# Altium schematic symbol library ARCOM_ADC.SchLib: 17 symbols
Pins are listed as number, name and electrical type; pins without a type are passive.

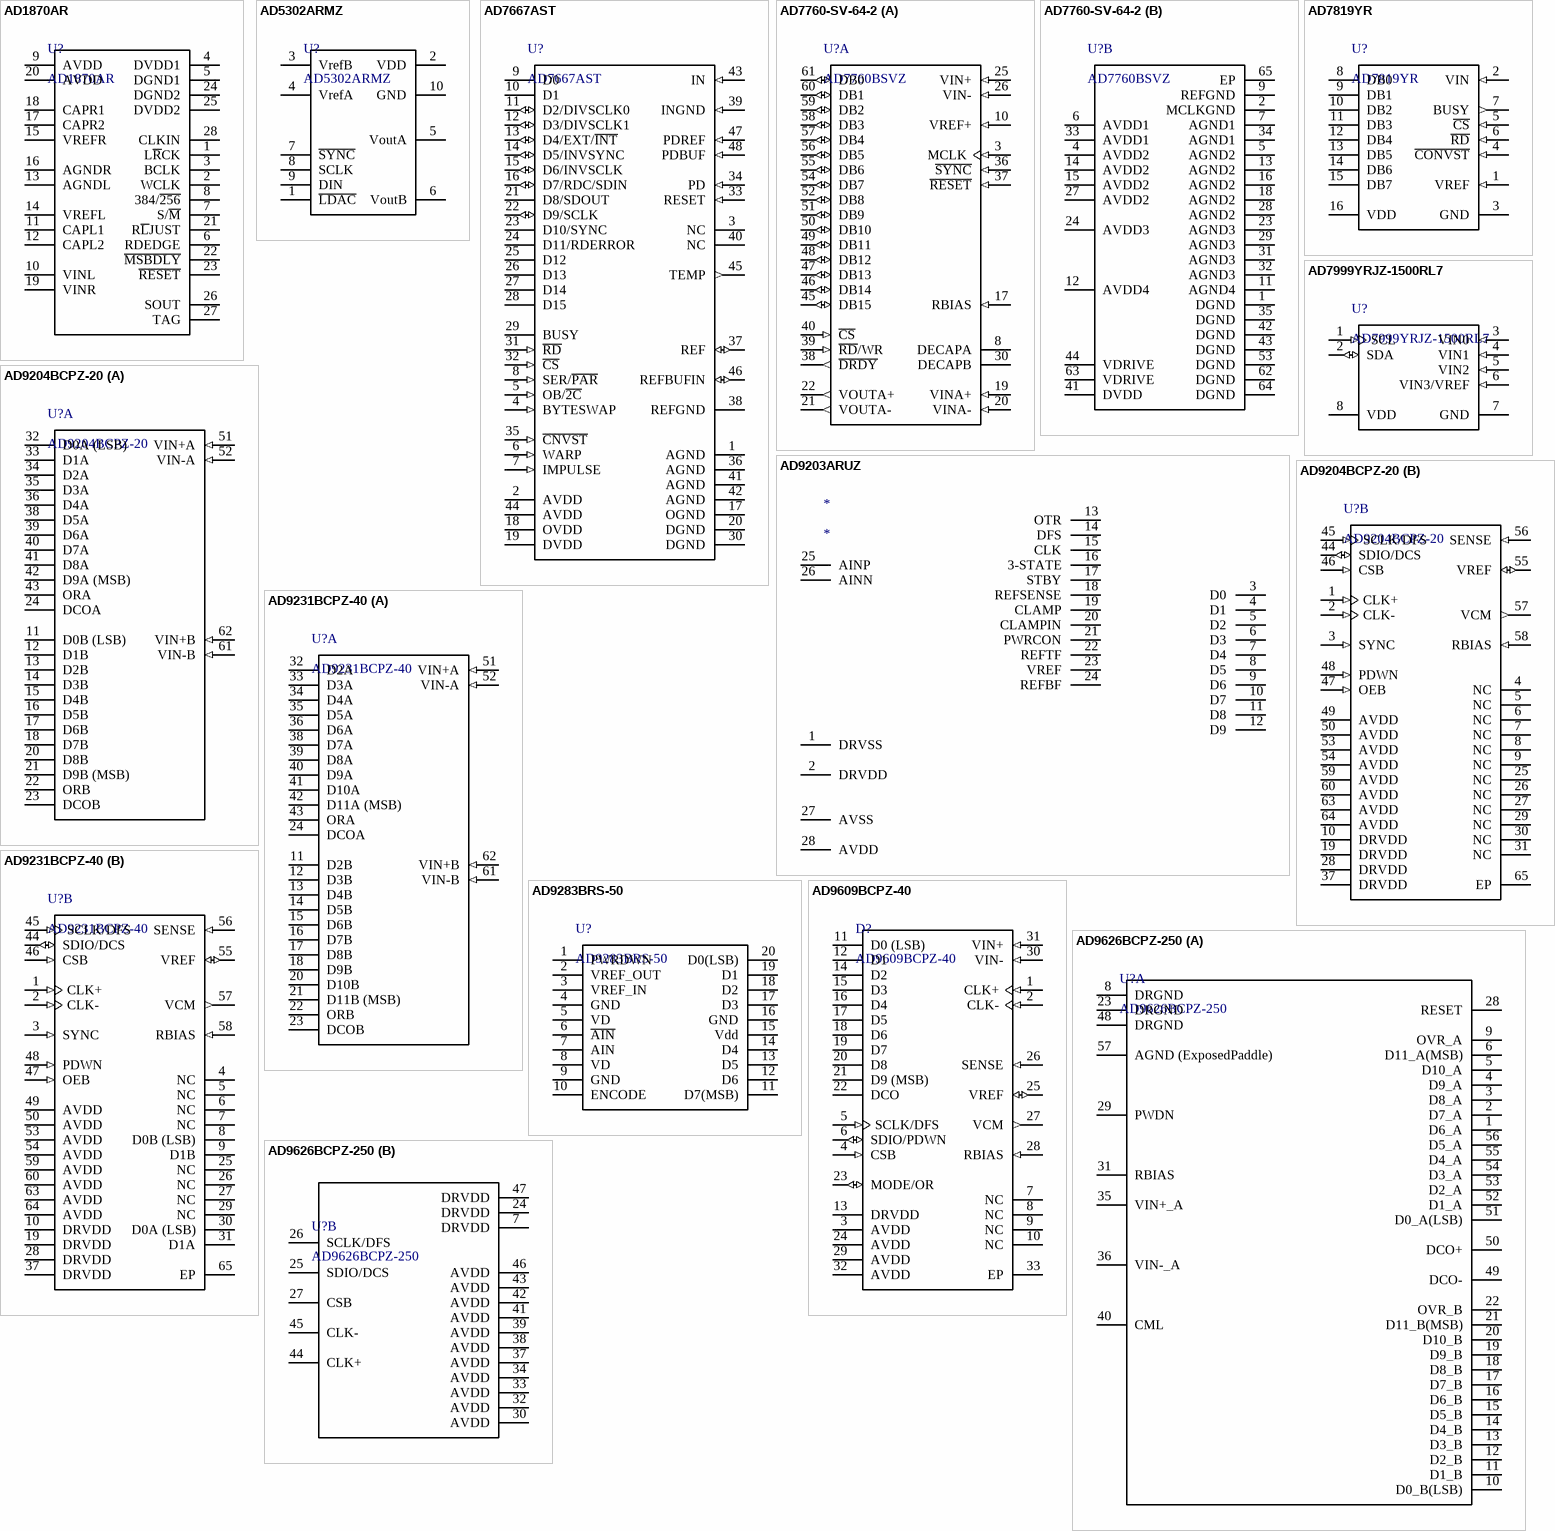
[diagram p0: symbols AD1870AR to AD9626BCPZ-250]

## AD1870AR
designator U?
single supply 16-bit sigma delta stereo ADC; Manufacturer: Analog Devices; ComponentLink2URL: http://www.analog.com/media/en/technical-documentation/data-sheets/AD1870.pdf; ComponentLink1Description: Manufacturer; ComponentLink1URL: http://www.analog.com; ComponentLink2Description: Datasheet; Manufacturer P/N: AD1870AR; Part: AD1870AR; Family: Chip
footprint SOIC-SO28_L (SOIC, 28-Leads, Body 17.9x7.5mm, Pitch 1.27mm, IPC High Density)
footprint SOIC-SO28_M (SOIC, 28-Leads, Body 17.9x7.5mm, Pitch 1.27mm, IPC Low Density)
footprint SOIC-SO28_N (SOIC, 28-Leads, Body 17.9x7.5mm, Pitch 1.27mm, IPC Medium Density)
pins: 1 L~{R}CK, 2 WCLK, 3 BCLK, 4 DVDD1, 5 DGND1, 6 RDEDGE, 7 S/~{M}, 8 384/~{256}, 9 AVDD, 10 VINL, 11 CAPL1, 12 CAPL2, 13 AGNDL, 14 VREFL, 15 VREFR, 16 AGNDR, 17 CAPR2, 18 CAPR1, 19 VINR, 20 AVDD, 21 R~{L}JUST, 22 ~{MSBDLY}, 23 ~{RESET}, 24 DGND2, 25 DVDD2, 26 SOUT, 27 TAG, 28 CLKIN

## AD5302ARMZ
designator U?
2.5V to 5.5V, 230uA, Dual Rail-to-Rail, Voltage Output 8-Bit DACs; Manufacturer: Analog Devices; ComponentLink1Description: Manufacturer; ComponentLink1URL: *; ComponentLink2Description: Datasheet; ComponentLink2URL: *; Family: Chip; Manufacturer P/N: AD5302ARMZ; Part: AD5302ARMZ
footprint SOP50P490X110-10N
pins: 1 ~{LDAC}, 2 VDD, 3 VrefB, 4 VrefA, 5 VoutA, 6 VoutB, 7 ~{SYNC}, 8 SCLK, 9 DIN, 10 GND

## AD7667AST
designator U?
16-Bit 1MSPS PulSAR Unipolar ADC with Reference; Manufacturer: Analog Devices; ComponentLink1Description: Manufacturer; ComponentLink1URL: http://www.analog.com/; ComponentLink2Description: Datasheet; ComponentLink2URL: http://www.analog.com/media/en/technical-documentation/data-sheets/AD7667.pdf; Manufacturer P/N: AD7667AST; Part: AD7667AST; Family: Chip
footprint ST-48_L (Thin QFP, 48-Leads, Body 7x7mm, Pitch 0.5mm, IPC High Density)
footprint ST-48_M (Thin QFP, 48-Leads, Body 7x7mm, Pitch 0.5mm, IPC Low Density)
footprint ST-48_N (Thin QFP, 48-Leads, Body 7x7mm, Pitch 0.5mm, IPC Medium Density)
pins: 1 AGND (power) "Analog Power Ground Pin.", 2 AVDD (power) "Input Analog Power Pin. Nominally 5 V.", 3 NC "No Connect.", 4 BYTESWAP (in) "Parallel Mode Selection (8-/16-bit). When LOW, the LSB is output on D[7:0] and the MSB is output on D[15:8]. When HIGH, the LSB is output on D[15:8] and the MSB is output on D[7:0].", 5 OB/~{2C} (in) "Straight Binary/Binary Twos Complement. When OB/2\C\ is HIGH, the digital output is straight binary; when LOW, the MSB is inverted, resulting in a twos complement output from its internal shift register.", 6 WARP (in) "Mode Selection. When this pin is HIGH and the IMPULSE pin is LOW, this input selects the fastest mode, the maximum throughput is achievable, and a minimum conversion rate must be applied in order to guarantee full specified (See Datasheet)", 7 IMPULSE (in) "Mode Selection. When IMPULSE is HIGH and WARP is LOW, this input selects a reduced power mode. In this mode, the power dissipation is approximately proportional to the sampling rate.", 8 SER/~{PAR} (in) "Serial/Parallel Selection Input. When LOW, the parallel port is selected; when HIGH, the serial interface mode is selected and some bits of the DATA bus are used as a serial port.", 9 D0 (hiz) "Bit 0  of the Parallel Port Data Output Bus. When SER/P\A\R\ is HIGH, these outputs are in high impedance.", 10 D1 (hiz) "Bit 1 of the Parallel Port Data Output Bus. When SER/P\A\R\ is HIGH, these outputs are in high impedance.", 11 D2/DIVSCLK0 (io) "When SER/P\A\R\ is LOW,this output is used as Bit 2 of the parallel port data output bus. When SER/P\A\R\ is HIGH, EXT/I\N\T\ is LOW, and RDC/SDIN is LOW (serial master read after convert), these inputs, part of the serial (See Datasheet)", 12 D3/DIVSCLK1 (io) "When SER/P\A\R\ is LOW,this output is used as Bit 3 of the parallel port data output bus. When SER/P\A\R\ is HIGH, EXT/I\N\T\ is LOW, and RDC/SDIN is LOW (serial master read after convert), these inputs, part of the serial (See Datasheet)", 13 D4/EXT/~{INT} (io) "When SER/P\A\R\ is LOW,this output is used as Bit 4 of the parallel port data output bus. When SER/P\A\R\is HIGH, this input, part of the serial port, is used as a digital select input for choosing the internal data clock or (See Datasheet)", 14 D5/INVSYNC (io) "When SER/P\A\R\ is LOW,this output is used as Bit 5 of the parallel port data output bus. When SER/P\A\R\ is HIGH, this input, part of the serial port, is used to select the active state of the SYNC signal. It is active in (See Datasheet)", 15 D6/INVSCLK (io) "When SER/P\A\R\ is LOW,this output is used as Bit 6 of the parallel port data output bus. When SER/P\A\R\ is HIGH, this input, part of the serial port, is used to invert the SCLK signal. It is active in both master and slave (See Datasheet)", 16 D7/RDC/SDIN (io) "When SER/P\A\R\ is LOW,this output is used as Bit 7 of the parallel port data output bus. When SER/P\A\R\ is HIGH, this input, part of the serial port, is used as either an external data input or a read mode selection input (See Datasheet)", 17 OGND (power) "Input/Output Interface Digital Power Ground.", 18 OVDD (power) "Input/Output Interface Digital Power. Nominally at the same supply as the host interface (5 V or 3 V).", 19 DVDD (power) "Digital Power. Nominally at 5 V.", 20 DGND (power) "Digital Power Ground.", 21 D8/SDOUT (hiz) "When SER/P\A\R\ is LOW,this output is used as Bit 8 of the parallel port data output bus. When SER/P\A\R\ is HIGH, this output, part of the serial port, is used as a serial data output synchronized to SCLK. Conversion (See Datasheet)", 22 D9/SCLK (io) "When SER/P\A\R\ is LOW,this output is used as Bit 9 of the parallel port data or SCLK output bus.When SER/P\A\R\ is HIGH,this pin, part of the serial port, is used as a serial data clock input or output,depending upon the (See Datasheet)", 23 D10/SYNC (hiz) "When SER/P\A\R\ is LOW,this output is used as Bit 10 of the parallel port data output bus.When SER/P\A\R\ is HIGH, this output, part of the serial port, is used as a digital output frame synchronization for use with the (See Datasheet)", 24 D11/RDERROR (hiz) "When SER/P\A\R\ is LOW,this output is used as Bit 11 of the parallel port data output bus. When SER/P\A\R\and EXT/I\N\T\ are HIGH,this output, part of the serial port, is used as an incomplete read error flag. In slave mode, (See Datasheet)", 25 D12 (hiz) "Bit 12 of the Parallel Port Data Output Bus. These pins are always outputs regardless of the state of SER/P\A\R\.", 26 D13 (hiz) "Bit 13 of the Parallel Port Data Output Bus. These pins are always outputs regardless of the state of SER/P\A\R\.", 27 D14 (hiz) "Bit 14 of the Parallel Port Data Output Bus. These pins are always outputs regardless of the state of SER/P\A\R\.", 28 D15 (hiz) "Bit 15 of the Parallel Port Data Output Bus. These pins are always outputs regardless of the state of SER/P\A\R\.", 29 BUSY (hiz) "Busy Output. Transitions HIGH when a conversion is started and remains HIGH until the conversion is complete and the data is latched into the on-chip shift register. The falling edge of BUSY could be used as a data ready (See Datasheet)", 30 DGND (power) "Must Be Tied to Digital Ground.", 31 ~{RD} (in) "Read Data. When C\S\and R\D\are both LOW, the interface parallel or serial output bus is enabled.", 32 ~{CS} (in) "Chip Select. When C\S\and R\D\are both LOW, the interface parallel or serial output bus is enabled. C\S\ is also used to gate the external clock.", 33 RESET (in) "Reset Input. When set to a logic HIGH, this pin resets the AD7667 and the current conversion, if any, is aborted. If not used, this pin could be tied to DGND.", 34 PD (in) "Power-Down Input. When set to a logic HIGH, power consumption is reduced and conversions are inhibited after the current one is completed.", 35 ~{CNVST} (in) "Start Conversion. If C\N\V\S\T\ is HIGH when the acquisition phase (t8) is complete, the next falling edge on C\N\V\S\T\ puts the internal sample/hold into the hold state and initiates a conversion. The mode is most (See Datasheet)", 36 AGND (power) "Analog Power Ground Pin.", 37 REF (io) "Reference Input Voltage. On-chip reference output voltage.", 38 REFGND (power) "Reference Input Analog Ground.", 39 INGND (in) "Analog Input Ground.", 40 NC "No Connect.", 41 AGND (power) "Analog Power Ground Pin.", 42 AGND (power) "Analog Power Ground Pin.", 43 IN (in) "Primary Analog Input with a Range of 0 V to 2.5 V.", 44 AVDD (power) "Input Analog Power Pin. Nominally 5 V.", 45 TEMP (out) "Temperature Sensor Voltage Output.", 46 REFBUFIN (io) "Reference Input Voltage. The reference output and the reference buffer input.", 47 PDREF (in) "This pin allows the choice of internal or external voltage references. When LOW, the on-chip reference is turned on. When HIGH, the internal reference is switched off and an external reference must be used.", 48 PDBUF (in) "This pin allows the choice of buffering an internal or external reference with the internal buffer. When LOW, the buffer is selected. When HIGH, the buffer is switched off."

## AD7760-SV-64-2
designator U?, comment AD7760BSVZ
2.5MSPS, 24-Bit, 100dB Sigma-delta ADC with on-chip buffer; Manufacturer: Analog Devices; ComponentLink1Description: Manufacturer; ComponentLink1URL: http://www.analog.com; ComponentLink2Description: Datasheet; ComponentLink2URL: http://www.analog.com/media/en/technical-documentation/data-sheets/AD7760.pdf; Manufacturer P/N: AD7760BSVZ; Part: AD7760BSVZ; Family: Chip
footprint SV-64-2_L (Thin QFP, 64-Leads, Body 10x10mm, Pitch 0.5mm, Thermal Pad 6.0x6.0mm, IPC High Density)
footprint SV-64-2_M (Thin QFP, 64-Leads, Body 10x10mm, Pitch 0.5mm, Thermal Pad 6.0x6.0mm, IPC Low Density)
footprint SV-64-2_N (Thin QFP, 64-Leads, Body 10x10mm, Pitch 0.5mm, Thermal Pad 6.0x6.0mm, IPC Medium Density)
part A pins: 3 MCLK (in) "Master Clock Input. A low jitter, buffered digital clock must be applied to this pin. The output data rate depends on the frequency of this clock. See the Clocking the AD7760 section for more details.", 8 DECAPA "Decoupling Pin. A 100 nF capacitor must be inserted between this pin and AGND.", 10 VREF+ (in) "Reference Input. The input range of this pin is determined by the reference buffer supply voltage (AVDD4). See the Reference Voltage Filtering section for more details.", 17 RBIAS (in) "Bias Current Setting Pin. A resistor must be inserted between this pin and AGND. For more details, see the Bias Resistor Selection section.", 19 VINA+ (in) "Positive Input to Differential Amplifier.", 20 VINA- (in) "Negative Input to Differential Amplifier.", 21 VOUTA- (out) "Negative Output from Differential Amplifier.", 22 VOUTA+ (out) "Positive Output from Differential Amplifier.", 25 VIN+ (in) "Positive Input to the Modulator.", 26 VIN- (in) "Negative Input to the Modulator.", 30 DECAPB "Decoupling Pin. A 33 pF capacitor must be inserted between this pin and AGND3.", 36 ~{SYNC} (in) "Synchronization Input. A falling edge on this pin resets the internal filter. This can be used to synchronize multiple devices in a system. See the Synchronization section for more details.", 37 ~{RESET} (in) "A falling edge on this pin resets all internal digital circuitry and powers down the part. Holding this pin low keeps the AD7760 in a reset state.", 38 ~{DRDY} (out) "Data Ready Output. Each time new conversion data is available, an active low pulse, ?ICLK period wide, is produced on this pin. See the Modulator Data Output Mode and AD7760 Interface sections for more details.", 39 ~{RD}/WR (in) "Read/Write Input. This pin, in conjunction with the chip select pin, is used to read and write data to and from the AD7760. If this pi\n is low when C\S\ is low, a read takes place. If this pin is high when C\S\ is low, a (See Datasheet)", 40 ~{CS} (in) "Chip Select Input. Used in conjunction with the R\D\/WR pin to read and write data from and to the AD7760. See the Modulator Data Output Mode and AD7760 Interface sections for more details.", 45 DB15 (io) "16-Bit Bidirectional Data Bus. These are three-state pins that are controlled by the C\S\ pin and the R\D\/WR pin. The operating voltage for these pins is determined by the VDRIVE voltage. See the Modulator Data Output Mode (See Datasheet)", 46 DB14 (io) "16-Bit Bidirectional Data Bus. These are three-state pins that are controlled by the C\S\ pin and the R\D\/WR pin. The operating voltage for these pins is determined by the VDRIVE voltage. See the Modulator Data Output Mode (See Datasheet)", 47 DB13 (io) "16-Bit Bidirectional Data Bus. These are three-state pins that are controlled by the C\S\ pin and the R\D\/WR pin. The operating voltage for these pins is determined by the VDRIVE voltage. See the Modulator Data Output Mode (See Datasheet)", 48 DB12 (io) "16-Bit Bidirectional Data Bus. These are three-state pins that are controlled by the C\S\ pin and the R\D\/WR pin. The operating voltage for these pins is determined by the VDRIVE voltage. See the Modulator Data Output Mode (See Datasheet)", 49 DB11 (io) "16-Bit Bidirectional Data Bus. These are three-state pins that are controlled by the C\S\ pin and the R\D\/WR pin. The operating voltage for these pins is determined by the VDRIVE voltage. See the Modulator Data Output Mode (See Datasheet)", 50 DB10 (io) "16-Bit Bidirectional Data Bus. These are three-state pins that are controlled by the C\S\ pin and the R\D\/WR pin. The operating voltage for these pins is determined by the VDRIVE voltage. See the Modulator Data Output Mode (See Datasheet)", 51 DB9 (io) "16-Bit Bidirectional Data Bus. These are three-state pins that are controlled by the C\S\ pin and the R\D\/WR pin. The operating voltage for these pins is determined by the VDRIVE voltage. See the Modulator Data Output Mode (See Datasheet)", 52 DB8 (io) "16-Bit Bidirectional Data Bus. These are three-state pins that are controlled by the C\S\ pin and the R\D\/WR pin. The operating voltage for these pins is determined by the VDRIVE voltage. See the Modulator Data Output Mode (See Datasheet)", 54 DB7 (io) "16-Bit Bidirectional Data Bus. These are three-state pins that are controlled by the C\S\ pin and the R\D\/WR pin. The operating voltage for these pins is determined by the VDRIVE voltage. See the Modulator Data Output Mode (See Datasheet)", 55 DB6 (io) "16-Bit Bidirectional Data Bus. These are three-state pins that are controlled by the C\S\ pin and the R\D\/WR pin. The operating voltage for these pins is determined by the VDRIVE voltage. See the Modulator Data Output Mode (See Datasheet)", 56 DB5 (io) "16-Bit Bidirectional Data Bus. These are three-state pins that are controlled by the C\S\ pin and the R\D\/WR pin. The operating voltage for these pins is determined by the VDRIVE voltage. See the Modulator Data Output Mode (See Datasheet)", 57 DB4 (io) "16-Bit Bidirectional Data Bus. These are three-state pins that are controlled by the C\S\ pin and the R\D\/WR pin. The operating voltage for these pins is determined by the VDRIVE voltage. See the Modulator Data Output Mode (See Datasheet)", 58 DB3 (io) "16-Bit Bidirectional Data Bus. These are three-state pins that are controlled by the C\S\ pin and the R\D\/WR pin. The operating voltage for these pins is determined by the VDRIVE voltage. See the Modulator Data Output Mode (See Datasheet)", 59 DB2 (io) "16-Bit Bidirectional Data Bus. These are three-state pins that are controlled by the C\S\ pin and the R\D\/WR pin. The operating voltage for these pins is determined by the VDRIVE voltage. See the Modulator Data Output Mode (See Datasheet)", 60 DB1 (io) "16-Bit Bidirectional Data Bus. These are three-state pins that are controlled by the C\S\ pin and the R\D\/WR pin. The operating voltage for these pins is determined by the VDRIVE voltage. See the Modulator Data Output Mode (See Datasheet)", 61 DB0 (io) "16-Bit Bidirectional Data Bus. These are three-state pins that are controlled by the C\S\ pin and the R\D\/WR pin. The operating voltage for these pins is determined by the VDRIVE voltage. See the Modulator Data Output Mode (See Datasheet)"
part B pins: 1 DGND (power) "Ground Reference for Digital Circuitry.", 2 MCLKGND (power) "Master Clock Ground Sensing Pin.", 4 AVDD2 (power) "5 V Power Supply. These pins should be decoupled to AGND2 (Pin 5 and Pin 13, with 100 nF capacitors on each of Pin 4, Pin 14, and Pin 15). Pin 27 should be connected to Pin 14 via a 15 nH inductor. See the Decoupling and (See Datasheet)", 5 AGND2 (power) "Power Supply Ground for Analog Circuitry Powered by AVDD2.", 6 AVDD1 (power) "2.5 V Power Supply for Modulator. These pins should be decoupled to AGND1 (Pin 7 and Pin 34, respectively) with 100 nF and 10 uF capacitors on each pin. See the Decoupling and Layout Recommendations section for details.", 7 AGND1 (power) "Power Supply Ground for Analog Circuitry Powered by AVDD1.", 9 REFGND (power) "Reference Ground. Ground connection for the reference voltage.", 11 AGND4 (power) "Power Supply Ground for Analog Circuitry Powered by AVDD4.", 12 AVDD4 (power) "3.3 V to 5 V Power Supply for Reference Buffer. This pin should be decoupled to Pin 9 with a 10 nF capacitor in series with a 10 O resistor.", 13 AGND2 (power) "Power Supply Ground for Analog Circuitry Powered by AVDD2.", 14 AVDD2 (power) "5 V Power Supply. These pins should be decoupled to AGND2 (Pin 5 and Pin 13, with 100 nF capacitors on each of Pin 4, Pin 14, and Pin 15). Pin 27 should be connected to Pin 14 via a 15 nH inductor. See the Decoupling and (See Datasheet)", 15 AVDD2 (power) "5 V Power Supply. These pins should be decoupled to AGND2 (Pin 5 and Pin 13, with 100 nF capacitors on each of Pin 4, Pin 14, and Pin 15). Pin 27 should be connected to Pin 14 via a 15 nH inductor. See the Decoupling and (See Datasheet)", 16 AGND2 (power) "Power Supply Ground for Analog Circuitry Powered by AVDD2.", 18 AGND2 (power) "Power Supply Ground for Analog Circuitry Powered by AVDD2.", 23 AGND3 (power) "Power Supply Ground for Analog Circuitry Powered by AVDD3.", 24 AVDD3 (power) "3.3 V to 5 V Power Supply for Differential Amplifier. This pin should be decoupled to AGND3 (Pin 23) with a 100 nF capacitor. See the Decoupling and Layout Recommendations section for details.", 27 AVDD2 (power) "5 V Power Supply. These pins should be decoupled to AGND2 (Pin 5 and Pin 13, with 100 nF capacitors on each of Pin 4, Pin 14, and Pin 15). Pin 27 should be connected to Pin 14 via a 15 nH inductor. See the Decoupling and (See Datasheet)", 28 AGND2 (power) "Power Supply Ground for Analog Circuitry Powered by AVDD2.", 29 AGND3 (power) "Power Supply Ground for Analog Circuitry Powered by AVDD3.", 31 AGND3 (power) "Power Supply Ground for Analog Circuitry Powered by AVDD3.", 32 AGND3 (power) "Power Supply Ground for Analog Circuitry Powered by AVDD3.", 33 AVDD1 (power) "2.5 V Power Supply for Modulator. These pins should be decoupled to AGND1 (Pin 7 and Pin 34, respectively) with 100 nF and 10 uF capacitors on each pin. See the Decoupling and Layout Recommendations section for details.", 34 AGND1 (power) "Power Supply Ground for Analog Circuitry Powered by AVDD1.", 35 DGND (power) "Ground Reference for Digital Circuitry.", 41 DVDD (power) "2.5 V Power Supply for Digital Circuitry and FIR Filter. This pin should be decoupled to DGND with a 100 nF capacitor.", 42 DGND (power) "Ground Reference for Digital Circuitry.", 43 DGND (power) "Ground Reference for Digital Circuitry.", 44 VDRIVE (power) "Logic Power Supply Input, 1.8 V to 2.5 V. The voltage supplied at these pins determines the operating voltage of the logic interface. Both of these pins must be connected together and tied to the same supply. Each pin should (See Datasheet)", 53 DGND (power) "Ground Reference for Digital Circuitry.", 62 DGND (power) "Ground Reference for Digital Circuitry.", 63 VDRIVE (power) "Logic Power Supply Input, 1.8 V to 2.5 V. The voltage supplied at these pins determines the operating voltage of the logic interface. Both of these pins must be connected together and tied to the same supply. Each pin should (See Datasheet)", 64 DGND (power) "Ground Reference for Digital Circuitry.", 65 EP (power) "Exposed  Pad, exposed paddle to the AGND plane of the PCB."

## AD7819YR
designator U?
200kSPS 8-Bit Sampling ADC; Manufacturer: Analog Devices; Manufacturer P/N: AD7819YRZ; ComponentLink1Description: Manufacturer; ComponentLink1URL: http://www.analog.com; ComponentLink2Description: Datasheet; ComponentLink2URL: http://www.marutsu.co.jp/contents/shop/marutsu/datasheet/AD7819.pdf; Part: AD7819YR; Family: Chip
footprint SOIC_16_L (SOIC, 16-Leads, Body 9.9x3.9mm, Pitch 1.27mm, IPC High Density)
footprint SOIC_16_M (SOIC, 16-Leads, Body 9.9x3.9mm, Pitch 1.27mm, IPC Low Density)
footprint SOIC_16_N (SOIC, 16-Leads, Body 9.9x3.9mm, Pitch 1.27mm, IPC Medium Density)
pins: 1 VREF (in) "Reference Input, 1.2 V to VDD.", 2 VIN (in) "Analog Input, 0 V to VREF.", 3 GND "Analog and Digital Ground.", 4 ~{CONVST} (in) "Convert Start. A low-to-high transition on this pin initiates a 1.5 us pulse on an internally generated C\O\N\V\S\T\ signal. A high-to-low transition on this line initiates the conversion process if the internal C\O\N\V\S\T\ (See Datasheet)", 5 ~{CS} (in) "Chip Select. This is a logic input. C\S\ is used in conjunction with R\D\ to enable outputs.", 6 ~{RD} (in) "Read Pin. This is a logic input. When C\S\ is low and R\D\ goes low, the DB7-DB0 leave their high impedance state and data is driven onto the data bus.", 7 BUSY (out) "ADC Busy Signal. This is a logic output. This signal goes logic high during the conversion process.", 8 DB0 (hiz) "Data Bit 0. These outputs are three-state TTL-compatible.", 9 DB1 (hiz) "Data Bit 1. These outputs are three-state TTL-compatible.", 10 DB2 (hiz) "Data Bit 2. These outputs are three-state TTL-compatible.", 11 DB3 (hiz) "Data Bit 3. These outputs are three-state TTL-compatible.", 12 DB4 (hiz) "Data Bit 4. These outputs are three-state TTL-compatible.", 13 DB5 (hiz) "Data Bit 5. These outputs are three-state TTL-compatible.", 14 DB6 (hiz) "Data Bit 6. These outputs are three-state TTL-compatible.", 15 DB7 (hiz) "Data Bit 7. These outputs are three-state TTL-compatible.", 16 VDD (power) "Positive power supply voltage, 2.7 V to 5.5 V."

## AD7999YRJZ-1500RL7
designator U?
Quad 8-Bit Analog-to-Digital Converter with I2C, Serial 2-Wire Interface, 140KSPS, -40 to +125 degC, RJ-8; Manufacturer: Analod Devices; ComponentLink1Description: Manufacturer; ComponentLink1URL: http://www.analog.com/; ComponentLink2Description: Datasheet; ComponentLink2URL: http://www.analog.com/media/en/technical-documentation/data-sheets/AD7991_7995_7999.pdf; Manufacturer P/N: AD7999YRJZ-1500RL7; Part: AD7999YRJZ-1500RL7; Family: Chip
footprint RJ-8_L (SOP, 8-Leads, Body 2.9x1.6mm, Pitch 0.65mm, IPC High Density)
footprint RJ-8_M (SOP, 8-Leads, Body 2.9x1.6mm, Pitch 0.65mm, IPC Low Density)
footprint RJ-8_N (SOP, 8-Leads, Body 2.9x1.6mm, Pitch 0.65mm, IPC Medium Density)
pins: 1 SCL (in) "Digital Input. Serial bus clock. External pull-up resistor required.", 2 SDA (io) "Digital I/O. Serial bus bidirectional data. Open-drain output. External pull-up resistor required.", 3 VIN0 (in) "Analog Input 1. Single-ended analog input channel. The input range is 0 V to VREF.", 4 VIN1 (in) "Analog Input 2. Single-ended analog input channel. The input range is 0 V to VREF.", 5 VIN2 (in) "Analog Input 3. Single-ended analog input channel. The input range is 0 V to VREF.", 6 VIN3/VREF (in) "Analog Input 4. Single-ended analog input channel. The input range is 0 V to VREF. Can also be used to input an external VREF signal.", 7 GND (power) "Analog Ground. Ground reference point for all circuitry on the AD7991/AD7995/AD7999. All analog input signals should be referred to this AGND voltage.", 8 VDD (power) "Power Supply Input. The VDD range for the AD7991/AD7995/AD7999 is from 2.7 V to 5.5 V."

## AD9203ARUZ
designator *
pins: 1 DRVSS (hiz) "Channel A Digital Outputs.D9A = MSB.", 2 DRVDD (hiz) "Channel A Digital Outputs.D9A = MSB.", 3 D0 (hiz) "Channel A Digital Outputs.D9A = MSB.", 4 D1 (hiz) "Channel A Digital Outputs.D9A = MSB.", 5 D2 (hiz) "Channel A Digital Outputs.D9A = MSB.", 6 D3 (hiz) "Channel A Digital Outputs.D9A = MSB.", 7 D4 (hiz) "Channel A Digital Outputs.D9A = MSB.", 8 D5 (hiz) "Channel A Digital Outputs.D9A = MSB.", 9 D6 (hiz) "Channel A Digital Outputs.D9A = MSB.", 10 D7 (hiz) "Channel A Digital Outputs.D9A = MSB.", 11 D8 (hiz) "Channel A Digital Outputs.D9A = MSB.", 12 D9 (hiz) "Channel A Digital Outputs.D9A = MSB.", 13 OTR (hiz) "Channel A Digital Outputs.D9A = MSB.", 14 DFS (hiz) "Channel A Digital Outputs.D9A = MSB.", 15 CLK (hiz) "Channel A Digital Outputs.D9A = MSB.", 16 3-STATE (hiz) "Channel A Digital Outputs.D9A = MSB.", 17 STBY (hiz) "Channel A Digital Outputs.D9A = MSB.", 18 REFSENSE (hiz) "Channel A Digital Outputs.D9A = MSB.", 19 CLAMP (hiz) "Channel A Digital Outputs.D9A = MSB.", 20 CLAMPIN (hiz) "Channel A Digital Outputs.D9A = MSB.", 21 PWRCON (hiz) "Channel A Digital Outputs.D9A = MSB.", 22 REFTF (hiz) "Channel A Digital Outputs.D9A = MSB.", 23 VREF (hiz) "Channel A Digital Outputs.D9A = MSB.", 24 REFBF (hiz) "Channel A Digital Outputs.D9A = MSB.", 25 AINP (hiz) "Channel A Digital Outputs.D9A = MSB.", 26 AINN (hiz) "Channel A Digital Outputs.D9A = MSB.", 27 AVSS (hiz) "Channel A Digital Outputs.D9A = MSB.", 28 AVDD (hiz) "Channel A Digital Outputs.D9A = MSB."

## AD9204BCPZ-20
designator U?
Dual 10-Bit Analog-to-Digital Converter with Parallel Interface, 1.8 V, 20MSPS, -40 to +85 degC, CP-64-4; Manufacturer: Analog Devices; ComponentLink1Description: Manufacturer; ComponentLink1URL: http://www.analog.com/; ComponentLink2Description: Datasheet; ComponentLink2URL: http://www.analog.com/media/en/technical-documentation/data-sheets/AD9204.pdf; Manufacturer P/N: AD9204BCPZ-20; Part: AD9204BCPZ-20; Family: Chip
footprint CP-64-4_L (QFN, 64-Leads, Body 9x9mm, Pitch 0.5mm, Thermal Pad 6.2x6.2mm, IPC High Density)
footprint CP-64-4_M (QFN, 64-Leads, Body 9x9mm, Pitch 0.5mm, Thermal Pad 6.2x6.2mm, IPC Low Density)
footprint CP-64-4_N (QFN, 64-Leads, Body 9x9mm, Pitch 0.5mm, Thermal Pad 6.2x6.2mm, IPC Medium Density)
part A pins: 11 D0B (LSB) (hiz) "Channel B Digital Outputs.D9B = MSB.", 12 D1B (hiz) "Channel B Digital Outputs.D9B = MSB.", 13 D2B (hiz) "Channel B Digital Outputs.D9B = MSB.", 14 D3B (hiz) "Channel B Digital Outputs.D9B = MSB.", 15 D4B (hiz) "Channel B Digital Outputs.D9B = MSB.", 16 D5B (hiz) "Channel B Digital Outputs.D9B = MSB.", 17 D6B (hiz) "Channel B Digital Outputs.D9B = MSB.", 18 D7B (hiz) "Channel B Digital Outputs.D9B = MSB.", 20 D8B (hiz) "Channel B Digital Outputs.D9B = MSB.", 21 D9B (MSB) (hiz) "Channel B Digital Outputs.D9B = MSB.", 22 ORB (hiz) "Channel B Out-of-Range Digital Output.", 23 DCOB (hiz) "Channel B Data Clock Digital Output.", 24 DCOA (hiz) "Channel A Data Clock Digital Output.", 32 D0A (LSB) (hiz) "Channel A Digital Outputs.D9A = MSB.", 33 D1A (hiz) "Channel A Digital Outputs.D9A = MSB.", 34 D2A (hiz) "Channel A Digital Outputs.D9A = MSB.", 35 D3A (hiz) "Channel A Digital Outputs.D9A = MSB.", 36 D4A (hiz) "Channel A Digital Outputs.D9A = MSB.", 38 D5A (hiz) "Channel A Digital Outputs.D9A = MSB.", 39 D6A (hiz) "Channel A Digital Outputs.D9A = MSB.", 40 D7A (hiz) "Channel A Digital Outputs.D9A = MSB.", 41 D8A (hiz) "Channel A Digital Outputs.D9A = MSB.", 42 D9A (MSB) (hiz) "Channel A Digital Outputs.D9A = MSB.", 43 ORA (hiz) "Channel A Out-of-Range Digital Output.", 51 VIN+A (in) "Channel A Analog Inputs.", 52 VIN-A (in) "Channel A Analog Inputs.", 61 VIN-B (in) "Channel B Analog Inputs.", 62 VIN+B (in) "Channel B Analog Inputs."
part B pins: 1 CLK+ (in) "Differential Encode Clock. PECL, LVDS, or 1.8 V CMOS inputs.", 2 CLK- (in) "Differential Encode Clock. PECL, LVDS, or 1.8 V CMOS inputs.", 3 SYNC (in) "Digital Input. SYNC input to clock divider. 30 k ohm internal pull-down", 4 NC "Do Not Connect.", 5 NC "Do Not Connect.", 6 NC "Do Not Connect.", 7 NC "Do Not Connect.", 8 NC "Do Not Connect.", 9 NC "Do Not Connect.", 10 DRVDD (power) "Digital Output Driver Supply (1.8 V to 3.3 V).", 19 DRVDD (power) "Digital Output Driver Supply (1.8 V to 3.3 V).", 25 NC "Do Not Connect.", 26 NC "Do Not Connect.", 27 NC "Do Not Connect.", 28 DRVDD (power) "Digital Output Driver Supply (1.8 V to 3.3 V).", 29 NC "Do Not Connect.", 30 NC "Do Not Connect.", 31 NC "Do Not Connect.", 37 DRVDD (power) "Digital Output Driver Supply (1.8 V to 3.3 V).", 44 SDIO/DCS (io) "SPI Data Input/Output (SDIO). Bidirectional SPI Data I/O in SPI mode. 30 k ohm internal pulldown in SPI mode.  Duty Cycle Stabilizer (DCS). Static enable input for duty cycle stabilizer in non-SPI mode. 30 k ohm  internal (See Datasheet)", 45 SCLK/DFS (in) "SPI Clock (SCLK) Input in SPI mode. 30 k ohm internal pull-down.Data Format Select (DFS). Static control of data output format in non-SPI mode. 30 kO internal pull-down.DFS high = twos complement output.  DFS low = offset (See Datasheet)", 46 CSB (in) "SPI Chip Select. Active low enable; 30 k ohm internal pull-up", 47 OEB (in) "Digital Input. Enable Channel A and Channel B digital outputs if low, three-state outputs if high. 30 kohm internal pull-down.", 48 PDWN (in) "Digital Input. 30 kohm internal pull-down.PDWN high = power-down device.PDWN low = run device, normal operation.", 49 AVDD (power) "1.8 V Analog Supply Pins", 50 AVDD (power) "1.8 V Analog Supply Pins", 53 AVDD (power) "1.8 V Analog Supply Pins", 54 AVDD (power) "1.8 V Analog Supply Pins", 55 VREF (io) "Voltage Reference Input/Output", 56 SENSE (in) "Reference Mode Selection", 57 VCM (out) "Analog output voltage at midsupply to set common mode of the analog inputs.", 58 RBIAS (in) "Sets Analog Current Bias. Connect to 10 kohm (1% tolerance) resistor to ground.", 59 AVDD (power) "1.8 V Analog Supply Pins", 60 AVDD (power) "1.8 V Analog Supply Pins", 63 AVDD (power) "1.8 V Analog Supply Pins", 64 AVDD (power) "1.8 V Analog Supply Pins", 65 EP (power) "Exposed paddle is the only ground connection for the chip. Must be connected to PCB AGND."

## AD9231BCPZ-40
designator U?
Dual 12-Bit Analog-to-Digital Converter with Parallel Interface, 1.8 V, 40MSPS, -40 to +85 degC, CP-64-4; Manufacturer: Analog Devices; ComponentLink1Description: Manufacturer; ComponentLink1URL: http://www.analog.com/; ComponentLink2Description: Datasheet; ComponentLink2URL: https://www.analog.com/media/en/technical-documentation/data-sheets/AD9231.pdf; Manufacturer P/N: AD9231BCPZ-40; Part: AD9231BCPZ-40; Family: Chip
footprint CP-64-4_L (QFN, 64-Leads, Body 9x9mm, Pitch 0.5mm, Thermal Pad 6.2x6.2mm, IPC High Density)
footprint CP-64-4_M (QFN, 64-Leads, Body 9x9mm, Pitch 0.5mm, Thermal Pad 6.2x6.2mm, IPC Low Density)
footprint CP-64-4_N (QFN, 64-Leads, Body 9x9mm, Pitch 0.5mm, Thermal Pad 6.2x6.2mm, IPC Medium Density)
part A pins: 11 D2B (hiz) "Channel B Digital Outputs.D9B = MSB.", 12 D3B (hiz) "Channel B Digital Outputs.D9B = MSB.", 13 D4B (hiz) "Channel B Digital Outputs.D9B = MSB.", 14 D5B (hiz) "Channel B Digital Outputs.D9B = MSB.", 15 D6B (hiz) "Channel B Digital Outputs.D9B = MSB.", 16 D7B (hiz) "Channel B Digital Outputs.D9B = MSB.", 17 D8B (hiz) "Channel B Digital Outputs.D9B = MSB.", 18 D9B (hiz) "Channel B Digital Outputs.D9B = MSB.", 20 D10B (hiz) "Channel B Digital Outputs.D9B = MSB.", 21 D11B (MSB) (hiz) "Channel B Digital Outputs.D9B = MSB.", 22 ORB (hiz) "Channel B Out-of-Range Digital Output.", 23 DCOB (hiz) "Channel B Data Clock Digital Output.", 24 DCOA (hiz) "Channel A Data Clock Digital Output.", 32 D2A (hiz) "Channel A Digital Outputs.D9A = MSB.", 33 D3A (hiz) "Channel A Digital Outputs.D9A = MSB.", 34 D4A (hiz) "Channel A Digital Outputs.D9A = MSB.", 35 D5A (hiz) "Channel A Digital Outputs.D9A = MSB.", 36 D6A (hiz) "Channel A Digital Outputs.D9A = MSB.", 38 D7A (hiz) "Channel A Digital Outputs.D9A = MSB.", 39 D8A (hiz) "Channel A Digital Outputs.D9A = MSB.", 40 D9A (hiz) "Channel A Digital Outputs.D9A = MSB.", 41 D10A (hiz) "Channel A Digital Outputs.D9A = MSB.", 42 D11A (MSB) (hiz) "Channel A Digital Outputs.D9A = MSB.", 43 ORA (hiz) "Channel A Out-of-Range Digital Output.", 51 VIN+A (in) "Channel A Analog Inputs.", 52 VIN-A (in) "Channel A Analog Inputs.", 61 VIN-B (in) "Channel B Analog Inputs.", 62 VIN+B (in) "Channel B Analog Inputs."
part B pins: 1 CLK+ (in) "Differential Encode Clock. PECL, LVDS, or 1.8 V CMOS inputs.", 2 CLK- (in) "Differential Encode Clock. PECL, LVDS, or 1.8 V CMOS inputs.", 3 SYNC (in) "Digital Input. SYNC input to clock divider. 30 k ohm internal pull-down", 4 NC "Do Not Connect.", 5 NC "Do Not Connect.", 6 NC "Do Not Connect.", 7 NC "Do Not Connect.", 8 D0B (LSB) "Do Not Connect.", 9 D1B "Do Not Connect.", 10 DRVDD (power) "Digital Output Driver Supply (1.8 V to 3.3 V).", 19 DRVDD (power) "Digital Output Driver Supply (1.8 V to 3.3 V).", 25 NC "Do Not Connect.", 26 NC "Do Not Connect.", 27 NC "Do Not Connect.", 28 DRVDD (power) "Digital Output Driver Supply (1.8 V to 3.3 V).", 29 NC "Do Not Connect.", 30 D0A (LSB) "Do Not Connect.", 31 D1A "Do Not Connect.", 37 DRVDD (power) "Digital Output Driver Supply (1.8 V to 3.3 V).", 44 SDIO/DCS (io) "SPI Data Input/Output (SDIO). Bidirectional SPI Data I/O in SPI mode. 30 k ohm internal pulldown in SPI mode.  Duty Cycle Stabilizer (DCS). Static enable input for duty cycle stabilizer in non-SPI mode. 30 k ohm  internal (See Datasheet)", 45 SCLK/DFS (in) "SPI Clock (SCLK) Input in SPI mode. 30 k ohm internal pull-down.Data Format Select (DFS). Static control of data output format in non-SPI mode. 30 kO internal pull-down.DFS high = twos complement output.  DFS low = offset (See Datasheet)", 46 CSB (in) "SPI Chip Select. Active low enable; 30 k ohm internal pull-up", 47 OEB (in) "Digital Input. Enable Channel A and Channel B digital outputs if low, three-state outputs if high. 30 kohm internal pull-down.", 48 PDWN (in) "Digital Input. 30 kohm internal pull-down.PDWN high = power-down device.PDWN low = run device, normal operation.", 49 AVDD (power) "1.8 V Analog Supply Pins", 50 AVDD (power) "1.8 V Analog Supply Pins", 53 AVDD (power) "1.8 V Analog Supply Pins", 54 AVDD (power) "1.8 V Analog Supply Pins", 55 VREF (io) "Voltage Reference Input/Output", 56 SENSE (in) "Reference Mode Selection", 57 VCM (out) "Analog output voltage at midsupply to set common mode of the analog inputs.", 58 RBIAS (in) "Sets Analog Current Bias. Connect to 10 kohm (1% tolerance) resistor to ground.", 59 AVDD (power) "1.8 V Analog Supply Pins", 60 AVDD (power) "1.8 V Analog Supply Pins", 63 AVDD (power) "1.8 V Analog Supply Pins", 64 AVDD (power) "1.8 V Analog Supply Pins", 65 EP (power) "Exposed paddle is the only ground connection for the chip. Must be connected to PCB AGND."

## AD9283BRS-50
designator U?
8-bit, 50 MSPS 3V A/D Converter; Manufacturer: Analog Devices; ComponentLink1Description: Manufacturer; ComponentLink1URL: *; ComponentLink2Description: Datasheet; ComponentLink2URL: *; Family: Chip; Manufacturer P/N: AD9283BRS-50; Part: AD9283BRS-50
pins: 1 PWRDWN, 2 VREF_OUT, 3 VREF_IN, 4 GND, 5 VD, 6 ~{AIN}, 7 AIN, 8 VD, 9 GND, 10 ENCODE, 11 D7(MSB), 12 D6, 13 D5, 14 D4, 15 Vdd, 16 GND, 17 D3, 18 D2, 19 D1, 20 D0(LSB)

## AD9609BCPZ-40
designator D?
10-bit, 40MSPS, 1.8V Analog-to-Digital Converter; Manufacturer: Analog Devices; ComponentLink1Description: Manufacturer; ComponentLink1URL: *; ComponentLink2Description: Datasheet; ComponentLink2URL: *; Part: *; Family: *; Manufacturer P/N: AD9609BCPZ-40
footprint CP-32-4_M (QFN, 32-Leads, Body 5x5mm, Pitch 0.5mm, Thermal Pad 3.5x3.5mm, IPC Low Density)
footprint CP-32-4_L (QFN, 32-Leads, Body 5x5mm, Pitch 0.5mm, Thermal Pad 3.5x3.5mm, IPC High Density)
footprint CP-32-4_N (QFN, 32-Leads, Body 5x5mm, Pitch 0.5mm, Thermal Pad 3.5x3.5mm, IPC Medium Density)
pins: 1 CLK+ (in) "Differential Encode Clock for PECL, LVDS, or 1.8 V CMOS Inputs.", 2 CLK- (in) "Differential Encode Clock for PECL, LVDS, or 1.8 V CMOS Inputs.", 3 AVDD (power) "1.8 V Supply Pin for ADC Core Domain.", 4 CSB (in) "SPI Chip Select. Active low enable, 30 k ohm internal pull-up.", 5 SCLK/DFS (in) "SPI Clock Input in SPI Mode (SCLK). 30 k ohm internal pull-down Data Format Select in Non-SPI Mode (DFS). Static control of data output format. 30 k ohm internal pull-down.DFS high = twos complement output; DFS low = offset binary (See Datasheet)", 6 SDIO/PDWN (io) "SPI Data Input/Output (SDIO). Bidirectional SPI data I/O with 30 k ohm internal pull-down. Non-SPI Mode Power-Down (PDWN). Static control of chip power-down with 30 k ohm internal pulldown. See Table 15 for details.", 7 NC "Do not connect.", 8 NC "Do not connect.", 9 NC "Do not connect.", 10 NC "Do not connect.", 11 D0 (LSB) (hiz) "ADC Digital Outputs.", 12 D1 (hiz) "ADC Digital Outputs.", 13 DRVDD (power) "1.8 V to 3.3 V Supply Pin for Output Driver Domain", 14 D2 (hiz) "ADC Digital Outputs.", 15 D3 (hiz) "ADC Digital Outputs.", 16 D4 (hiz) "ADC Digital Outputs.", 17 D5 (hiz) "ADC Digital Outputs.", 18 D6 (hiz) "ADC Digital Outputs.", 19 D7 (hiz) "ADC Digital Outputs.", 20 D8 (hiz) "ADC Digital Outputs.", 21 D9 (MSB) (hiz) "ADC Digital Outputs.", 22 DCO (hiz) "Data Clock Digital Output.", 23 MODE/OR (io) "Chip Mode Select Input (MODE)/Out-of-Range Digital Output in SPI Mode (OR). Default = out-of-range (OR) digital output (SPI Register 0x2A, Bit 0 = 1).Option = chip mode select input (SPI Register 0x2A, Bit 0 = 0). Chip (See Datasheet)", 24 AVDD (power) "1.8 V Supply Pin for ADC Core Domain.", 25 VREF (io) "1.0 V Voltage Reference Input/Output. See Table 10.", 26 SENSE (in) "Reference Mode Selection. See Table 10.", 27 VCM (out) "Analog Output Voltage at Mid AVDD Supply. Sets common mode of the analog inputs.", 28 RBIAS (in) "Set Analog Current Bias. Connect to 10 k ohm (1% tolerance) resistor to ground.", 29 AVDD (power) "1.8 V Supply Pin for ADC Core Domain.", 30 VIN- (in) "ADC Analog Inputs.", 31 VIN+ (in) "ADC Analog Inputs.", 32 AVDD (power) "1.8 V Supply Pin for ADC Core Domain.", 33 EP (power) "The exposed paddle is the only ground connection. It must be soldered to the analog ground of the PCB to ensure proper functionality and heat dissipation, noise, and mechanical strength benefits."

## AD9626BCPZ-250
designator U?
12-Bit, 250 MSPS, 1.8V Analog-to-Digital Converter; Manufacturer: Analog Devices; ComponentLink1Description: Manufacturer; ComponentLink1URL: http://www.analog.com/; ComponentLink2Description: Datasheet; ComponentLink2URL: http://www.analog.com/media/en/technical-documentation/data-sheets/AD9626.pdf; Manufacturer P/N: AD9626BCPZ-250; Family: Chip; Part: AD9626BCPZ-250
footprint CP-56-2_L (QFN, 56-Leads, Body 8x8mm, Pitch 0.5mm, Thermal Pad 4.3x4.3mm, IPC High Density)
footprint CP-56-2_M (QFN, 56-Leads, Body 8x8mm, Pitch 0.5mm, Thermal Pad 4.3x4.3mm, IPC Low Density)
footprint CP-56-2_N (QFN, 56-Leads, Body 8x8mm, Pitch 0.5mm, Thermal Pad 4.3x4.3mm, IPC Medium Density)
part A pins: 1 D6_A, 2 D7_A, 3 D8_A, 4 D9_A, 5 D10_A, 6 D11_A(MSB), 8 DRGND, 9 OVR_A, 10 D0_B(LSB), 11 D1_B, 12 D2_B, 13 D3_B, 14 D4_B, 15 D5_B, 16 D6_B, 17 D7_B, 18 D8_B, 19 D9_B, 20 D10_B, 21 D11_B(MSB), 22 OVR_B, 23 DRGND, 28 RESET, 29 PWDN, 31 RBIAS, 35 VIN+_A, 36 VIN-_A, 40 CML, 48 DRGND, 49 DCO-, 50 DCO+, 51 D0_A(LSB), 52 D1_A, 53 D2_A, 54 D3_A, 55 D4_A, 56 D5_A, 57 AGND (ExposedPaddle)
part B pins: 7 DRVDD, 24 DRVDD, 25 SDIO/DCS, 26 SCLK/DFS, 27 CSB, 30 AVDD, 32 AVDD, 33 AVDD, 34 AVDD, 37 AVDD, 38 AVDD, 39 AVDD, 41 AVDD, 42 AVDD, 43 AVDD, 44 CLK+, 45 CLK-, 46 AVDD, 47 DRVDD

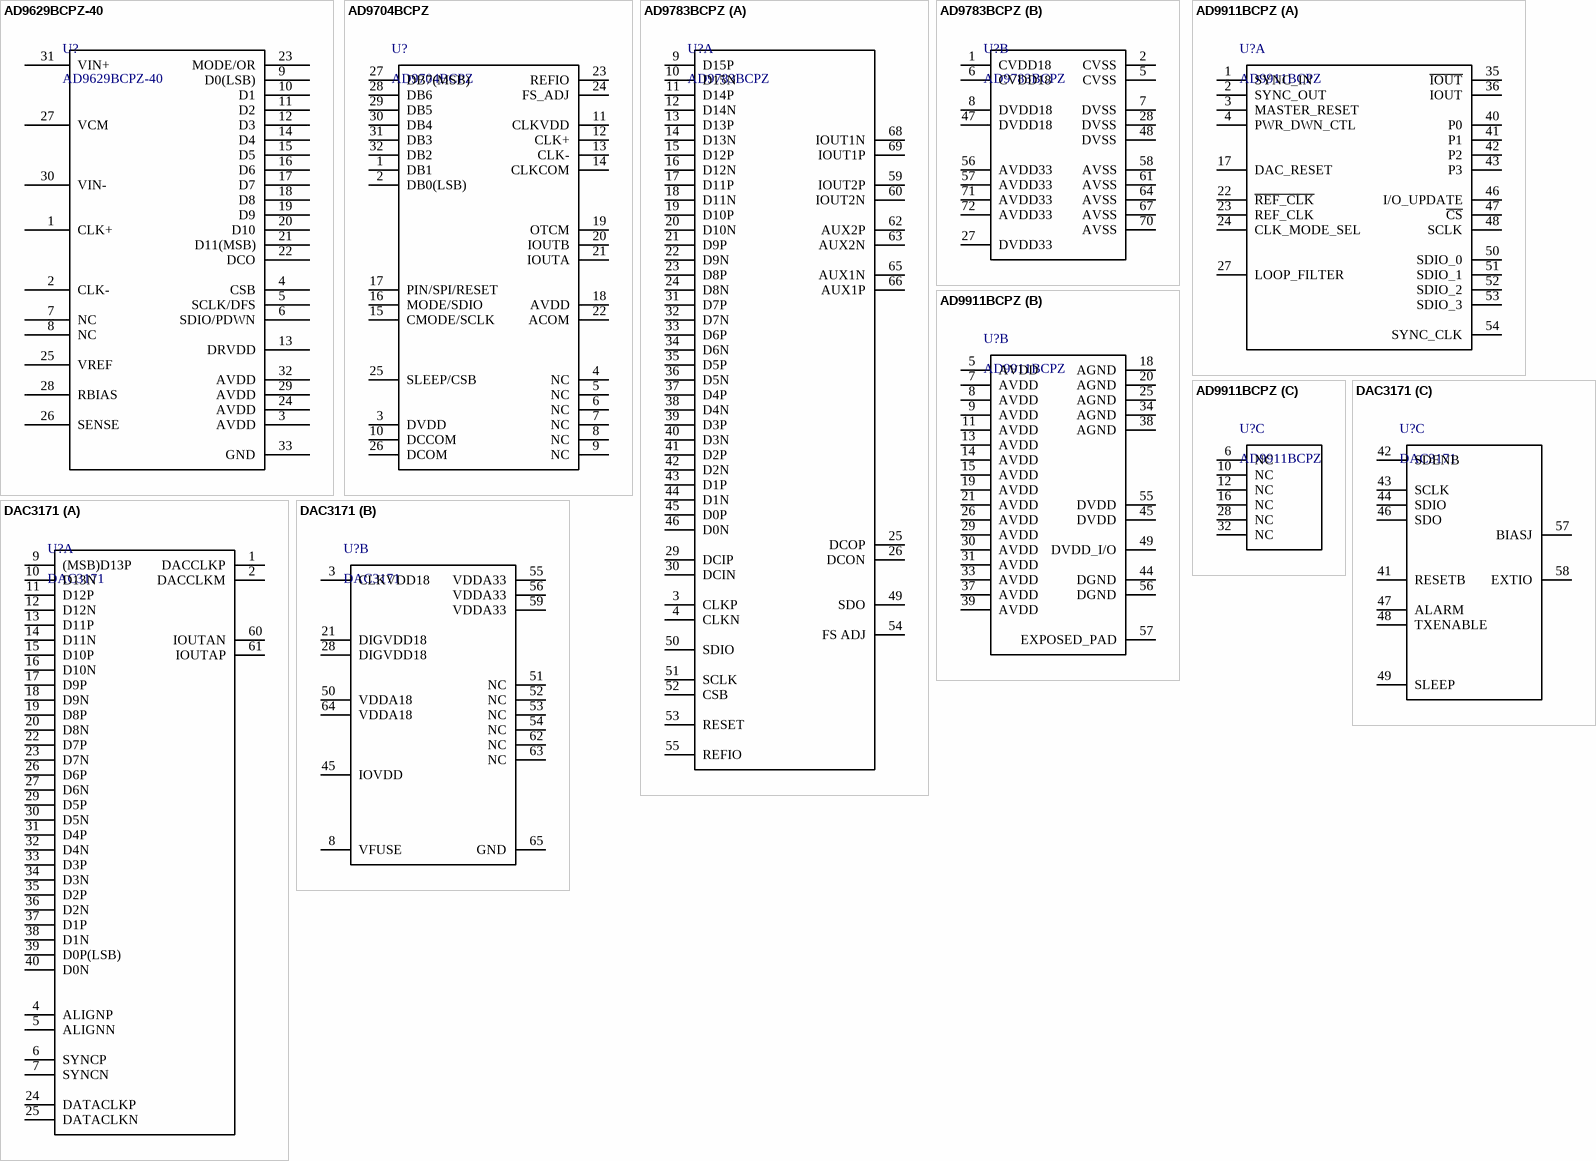
[diagram p1: symbols AD9629BCPZ-40 to DAC3171]

## AD9629BCPZ-40
designator U?
12-Bit, 40MSPS ADC; Manufacturer: Analog Devices; ComponentLink1Description: Manufacturer; ComponentLink1URL: http://www.analog.com; ComponentLink2Description: Datasheet; ComponentLink2URL: *; Manufacturer P/N: AD9629BCPZ-40; Part: AD9629BCPZ-40; Family: Chip
footprint CP-32-4_L (QFN, 32-Leads, Body 5x5mm, Pitch 0.5mm, Thermal Pad 3.5x3.5mm, IPC High Density)
footprint CP-32-4_M (QFN, 32-Leads, Body 5x5mm, Pitch 0.5mm, Thermal Pad 3.5x3.5mm, IPC Low Density)
footprint CP-32-4_N (QFN, 32-Leads, Body 5x5mm, Pitch 0.5mm, Thermal Pad 3.5x3.5mm, IPC Medium Density)
pins: 1 CLK+, 2 CLK-, 3 AVDD, 4 CSB, 5 SCLK/DFS, 6 SDIO/PDWN, 7 NC, 8 NC, 9 D0(LSB), 10 D1, 11 D2, 12 D3, 13 DRVDD, 14 D4, 15 D5, 16 D6, 17 D7, 18 D8, 19 D9, 20 D10, 21 D11(MSB), 22 DCO, 23 MODE/OR, 24 AVDD, 25 VREF, 26 SENSE, 27 VCM, 28 RBIAS, 29 AVDD, 30 VIN-, 31 VIN+, 32 AVDD, 33 GND

## AD9704BCPZ
designator U?
8-Bit, 175 MSPS TxDAC Digital-to-Analog Converters; Manufacturer: Analog Devices; ComponentLink1Description: Manufacturer; ComponentLink1URL: *; ComponentLink2Description: Datasheet; ComponentLink2URL: *; Family: Chip; Manufacturer P/N: AD9704BCPZ; Part: AD9704BCPZ
pins: 1 DB1, 2 DB0(LSB), 3 DVDD, 4 NC, 5 NC, 6 NC, 7 NC, 8 NC, 9 NC, 10 DCCOM, 11 CLKVDD, 12 CLK+, 13 CLK-, 14 CLKCOM, 15 CMODE/SCLK, 16 MODE/SDIO, 17 PIN/SPI/RESET, 18 AVDD, 19 OTCM, 20 IOUTB, 21 IOUTA, 22 ACOM, 23 REFIO, 24 FS_ADJ, 25 SLEEP/CSB, 26 DCOM, 27 DB7(MSB), 28 DB6, 29 DB5, 30 DB4, 31 DB3, 32 DB2

## AD9783BCPZ
designator U?
Dual 16-bit, LVDS Interface, 500MSPS DACs; ComponentLink1Description: *; ComponentLink1URL: *; ComponentLink2Description: *; ComponentLink2URL: *; Manufacturer: *; Manufacturer p/n: *; Family: *; Part: *
part A pins: 3 CLKP, 4 CLKN, 9 D15P, 10 D15N, 11 D14P, 12 D14N, 13 D13P, 14 D13N, 15 D12P, 16 D12N, 17 D11P, 18 D11N, 19 D10P, 20 D10N, 21 D9P, 22 D9N, 23 D8P, 24 D8N, 25 DCOP, 26 DCON, 29 DCIP, 30 DCIN, 31 D7P, 32 D7N, 33 D6P, 34 D6N, 35 D5P, 36 D5N, 37 D4P, 38 D4N, 39 D3P, 40 D3N, 41 D2P, 42 D2N, 43 D1P, 44 D1N, 45 D0P, 46 D0N, 49 SDO, 50 SDIO, 51 SCLK, 52 CSB, 53 RESET, 54 FS ADJ, 55 REFIO, 59 IOUT2P, 60 IOUT2N, 62 AUX2P, 63 AUX2N, 65 AUX1N, 66 AUX1P, 68 IOUT1N, 69 IOUT1P
part B pins: 1 CVDD18, 2 CVSS, 5 CVSS, 6 CVDD18, 7 DVSS, 8 DVDD18, 27 DVDD33, 28 DVSS, 47 DVDD18, 48 DVSS, 56 AVDD33, 57 AVDD33, 58 AVSS, 61 AVSS, 64 AVSS, 67 AVSS, 70 AVSS, 71 AVDD33, 72 AVDD33

## AD9911BCPZ
designator U?
500MSPS Direct Digital Synthesizer with 10-bit DAC; Manufacturer: Analog Devices; ComponentLink1Description: Manufacturer; ComponentLink1URL: http://www.analog.com/; ComponentLink2Description: Datasheet; ComponentLink2URL: http://www.analog.com/media/en/technical-documentation/data-sheets/AD9911.pdf; Family: Chip; Manufacturer P/N: AD9911BCPZ; Part: AD9911BCPZ; ComponentLink3Description: Eval-board documentation; ComponentLink3URL: http://www.analog.com/media/en/technical-documentation/evaluation-documentation/35803904EVAL_AD9911.pdf
footprint CP-56-2_N (QFN, 56-Leads, Body 8x8mm, Pitch 0.5mm, Thermal Pad 4.3x4.3mm, IPC Medium Density)
part A pins: 1 SYNC_IN, 2 SYNC_OUT, 3 MASTER_RESET, 4 PWR_DWN_CTL, 17 DAC_RESET, 22 ~{REF_CLK}, 23 REF_CLK, 24 CLK_MODE_SEL, 27 LOOP_FILTER, 35 ~{IOUT}, 36 IOUT, 40 P0, 41 P1, 42 P2, 43 P3, 46 I/O_UPDATE, 47 ~{CS}, 48 SCLK, 50 SDIO_0, 51 SDIO_1, 52 SDIO_2, 53 SDIO_3, 54 SYNC_CLK
part B pins: 5 AVDD, 7 AVDD, 8 AVDD, 9 AVDD, 11 AVDD, 13 AVDD, 14 AVDD, 15 AVDD, 18 AGND, 19 AVDD, 20 AGND, 21 AVDD, 25 AGND, 26 AVDD, 29 AVDD, 30 AVDD, 31 AVDD, 33 AVDD, 34 AGND, 37 AVDD, 38 AGND, 39 AVDD, 44 DGND, 45 DVDD, 49 DVDD_I/O, 55 DVDD, 56 DGND, 57 EXPOSED_PAD
part C pins: 6 NC, 10 NC, 12 NC, 16 NC, 28 NC, 32 NC

## DAC3171
designator U?
Single, 14-Bit, 500MSPS, DAC; Manufacturer: Texas Instruments; Manufacturer p/n: DAC3171IRGC; ComponentLink1Description: Manufacturer; ComponentLink1URL: http://www.ti.com; ComponentLink2Description: Datasheet; ComponentLink2URL: http://www.ti.com/lit/ds/symlink/dac3171.pdf; Family: Chip; Part: DAC3171IRGC
footprint VQFN64_N (QFN, 64-Leads, Body 9x9mm, Pitch 0.5mm, Thermal Pad 7.5x7.5mm, IPC Medium Density)
part A pins: 1 DACCLKP, 2 DACCLKM, 4 ALIGNP, 5 ALIGNN, 6 SYNCP, 7 SYNCN, 9 (MSB)D13P, 10 D13N, 11 D12P, 12 D12N, 13 D11P, 14 D11N, 15 D10P, 16 D10N, 17 D9P, 18 D9N, 19 D8P, 20 D8N, 22 D7P, 23 D7N, 24 DATACLKP, 25 DATACLKN, 26 D6P, 27 D6N, 29 D5P, 30 D5N, 31 D4P, 32 D4N, 33 D3P, 34 D3N, 35 D2P, 36 D2N, 37 D1P, 38 D1N, 39 D0P(LSB), 40 D0N, 60 IOUTAN, 61 IOUTAP
part B pins: 3 CLKVDD18, 8 VFUSE, 21 DIGVDD18, 28 DIGVDD18, 45 IOVDD, 50 VDDA18, 51 NC, 52 NC, 53 NC, 54 NC, 55 VDDA33, 56 VDDA33, 59 VDDA33, 62 NC, 63 NC, 64 VDDA18, 65 GND
part C pins: 41 RESETB, 42 SDENB, 43 SCLK, 44 SDIO, 46 SDO, 47 ALARM, 48 TXENABLE, 49 SLEEP, 57 BIASJ, 58 EXTIO